# Altium schematic symbol library CAN.SchLib: 10 symbols
Pins are listed as number, name and electrical type; pins without a type are passive.

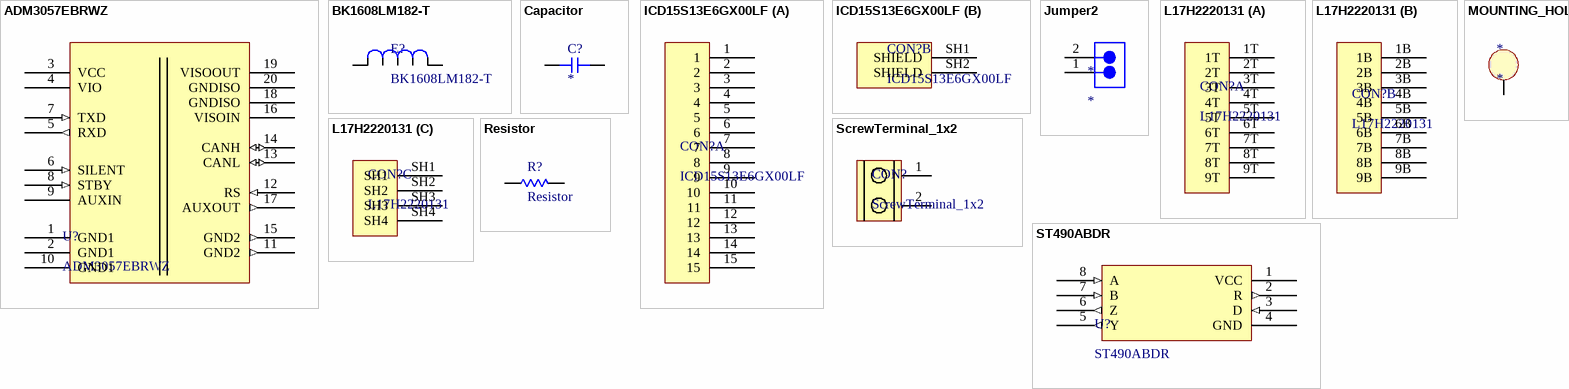
[diagram p0: symbols ADM3057EBRWZ to ST490ABDR]

## ADM3057EBRWZ
designator U?
Transceiver, Isolated 20-SOIC; Supplier Part Number 1: ADM3057EBRWZ-ND; Supplier 1: Digi-Key
footprint RW-20_ADI
pins: 1 GND1 (power), 2 GND1 (power), 3 VCC (power), 4 VIO (power), 5 RXD (out), 6 SILENT (in), 7 TXD (in), 8 STBY (in), 9 AUXIN, 10 GND1 (power), 11 GND2 (out), 12 RS (in), 13 CANL (io), 14 CANH (io), 15 GND2 (out), 16 VISOIN (power), 17 AUXOUT (out), 18 GNDISO (power), 19 VISOOUT (power), 20 GNDISO (power)

## BK1608LM182-T
designator E?
FERRITE BEAD 1.8 KOHM 0603 1LN; Supplier 1: Digi-Key; Supplier Part Number 1: 587-1892-1-ND
footprint BK0603_TAY
pins: 1, 2

## Capacitor
designator C?
Capacitor
footprint 0603_CAP
pins: 1, 2

## ICD15S13E6GX00LF
designator CON?
CONN DSUB HD RCPT 15POS R/A SLDR; Supplier 1: Digi-Key; Supplier Part Number 1: 609-2801-ND
footprint ICD15S (CONN DSUB HD RCPT 15POS R/A SLDR)
part A pins: 1, 2, 3, 4, 5, 6, 7, 8, 9, 10, 11, 12, 13, 14, 15
part B pins: SH1 SHIELD, SH2 SHIELD

## Jumper2
designator *
footprint PIN_HEADER_1x2
pins: 1 76, 2 75

## L17H2220131
designator CON?
CONN D-SUB RCPT 9POS R/A SLDR; Supplier Part 1: Digi-Key; Supplier Part Number 1: L17H2220131-ND
footprint L17H2220131
part A pins: 1T, 2T, 3T, 4T, 5T, 6T, 7T, 8T, 9T
part B pins: 1B, 2B, 3B, 4B, 5B, 6B, 7B, 8B, 9B
part C pins: SH1, SH2, SH3, SH4

## MOUNTING_HOLE
designator *
footprint MOUNTING_HOLE
pins: 1

## Resistor
designator R?
footprint 0603_RES
pins: 1, 2

## ScrewTerminal_1x2
designator CON?
Supplier 1: Digi-Key; Supplier Part Number 1: 277-1667-ND
footprint 1935161 (TERM BLOCK PCB 2POS 5.0MM GREEN)
pins: 1 12, 2 13

## ST490ABDR
designator U?
1/1 Transceiver Full RS422, RS485 8-SO; Supplier 1: Digi-Key; Supplier Part Number 1: 497-2091-1-ND
footprint SO-8_STM
pins: 1 VCC (power), 2 R (out), 3 D (in), 4 GND (power), 5 Y (out), 6 Z (out), 7 B (in), 8 A (in)